# Altium schematic symbol library MJTP1117.SchLib: 1 symbol
Pins are listed as number, name and electrical type; pins without a type are passive.

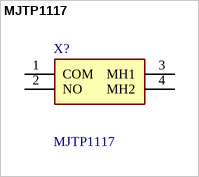
[diagram p0: symbol MJTP1117]

## MJTP1117
designator X?
APEM - MJTP1117 - TACTILE SW, SPST, 0.05A, 12VDC, TH; Geometry.Height: 4.3mm; Manufacturer_Name: Apem; Manufacturer_Part_Number: MJTP1117; Mouser Part Number: 642-MJTP1117; Mouser Price/Stock: https://www.mouser.co.uk/ProductDetail/Apem/MJTP1117?qs=6hR9CYnVCPAeQNDPI%2FtCng%3D%3D; Arrow Part Number: *; Arrow Price/Stock: *; Datasheet Link: https://mm.digikey.com/Volume0/opasdata/d220001/medias/docus/5561/MJTP%20thruhole.pdf
footprint MJTP1117
pins: 1 COM, 2 NO, 3 MH1, 4 MH2